# EAGLE library part GE11R (library EW_Resistors)
SIL RESISTOR
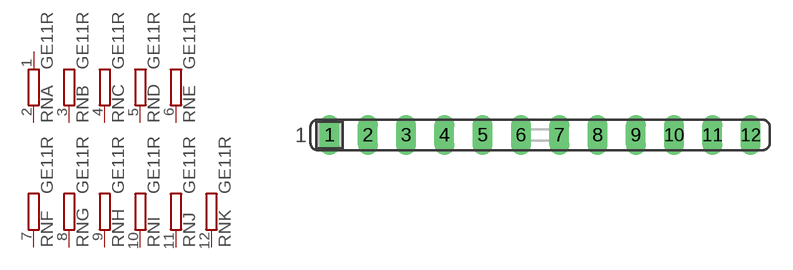
[diagram p68: symbol with the pads of SIL12; footprint SIL12]

Designator prefix RN; gates A=R-NV-8 B=R-NV1-8 C=R-NV1-8 D=R-NV1-8 E=R-NV1-8 F=R-NV1-8 G=R-NV1-8 H=R-NV1-8 I=R-NV1-8 J=R-NV1-8 K=R-NV1-8

## GE11R (OC_FARNELL: unknown; OC_NEWARK: unknown)  [SIL12]
1  A:1  pas
2  A:2  pas
3  B:2  pas
4  C:2  pas
5  D:2  pas
6  E:2  pas
7  F:2  pas
8  G:2  pas
9  H:2  pas
10  I:2  pas
11  J:2  pas
12  K:2  pas

## Footprint SIL12 (pad centres in mm)
Single In Line
drill 0.813 long: 1 -13.97,0; 2 -11.43,0; 3 -8.89,0; 4 -6.35,0; 5 -3.81,0; 6 -1.27,0; 7 1.27,0; 8 3.81,0; 9 6.35,0; 10 8.89,0; 11 11.43,0; 12 13.97,0